# Altium footprint library AMS1117.PcbLib: 1 footprints
Each footprint in its own frame and in the unit in brackets; x right, y up, seen from the top. Pads: shape width x height; smd on the part's side, far side on the other; paste and mask are expansions set on the pad; w line width, h text height; cw(c..) or ccw(c..) is an arc to the next point about the centre after c.
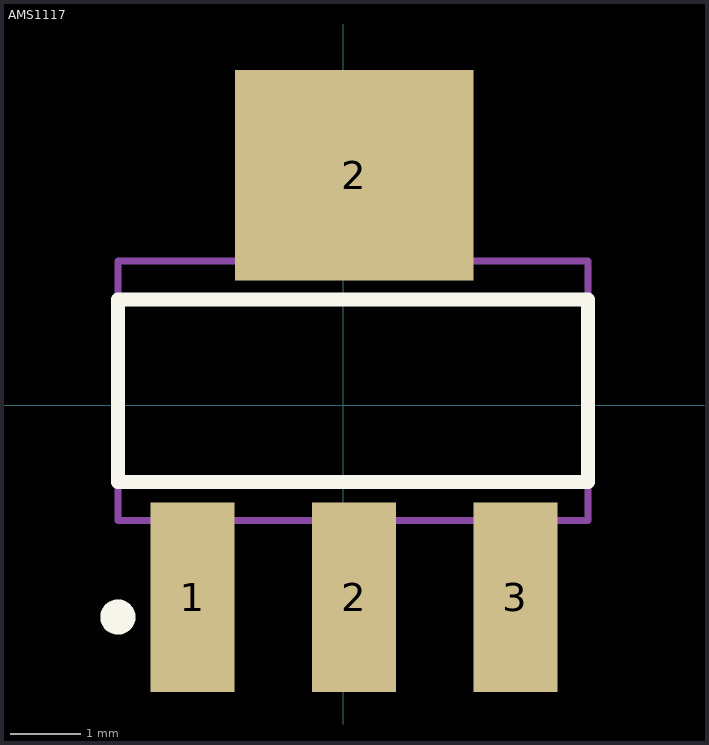
[diagram p0: the footprint, top view; thin cyan lines are the x and y axes]

## AMS1117 [mm]
pads (4):
  rect 1.2x2.7 smd: 1(-2.144,-2.736) 2(0.158,-2.736) 3(2.458,-2.736)
  rect 3.4x3 smd: 2(0.158,3.283)
Top Overlay:
  circle w0.25: c-3.209,-3.016 r0.125
  lines w0.2: -3.208,-1.09 -3.208,1.51 3.492,1.51 3.492,-1.09 -3.208,-1.09
Mechanical 13:
  lines w0.1: -3.208,-1.64 -3.208,2.06 3.492,2.06 3.492,-1.64 -3.208,-1.64
3D body "AMS1117_3V3_axisZ.step": height 1.89, standoff -0.02, extent -3.188,-3.313 3.522,3.987